# Altium footprint library ws2812esp32_v1.0_PcbLib.PcbLib: 16 footprints
Each footprint in its own frame and in the unit in brackets; x right, y up, seen from the top. Pads: shape width x height; smd on the part's side, far side on the other; paste and mask are expansions set on the pad; w line width, h text height; cw(c..) or ccw(c..) is an arc to the next point about the centre after c.
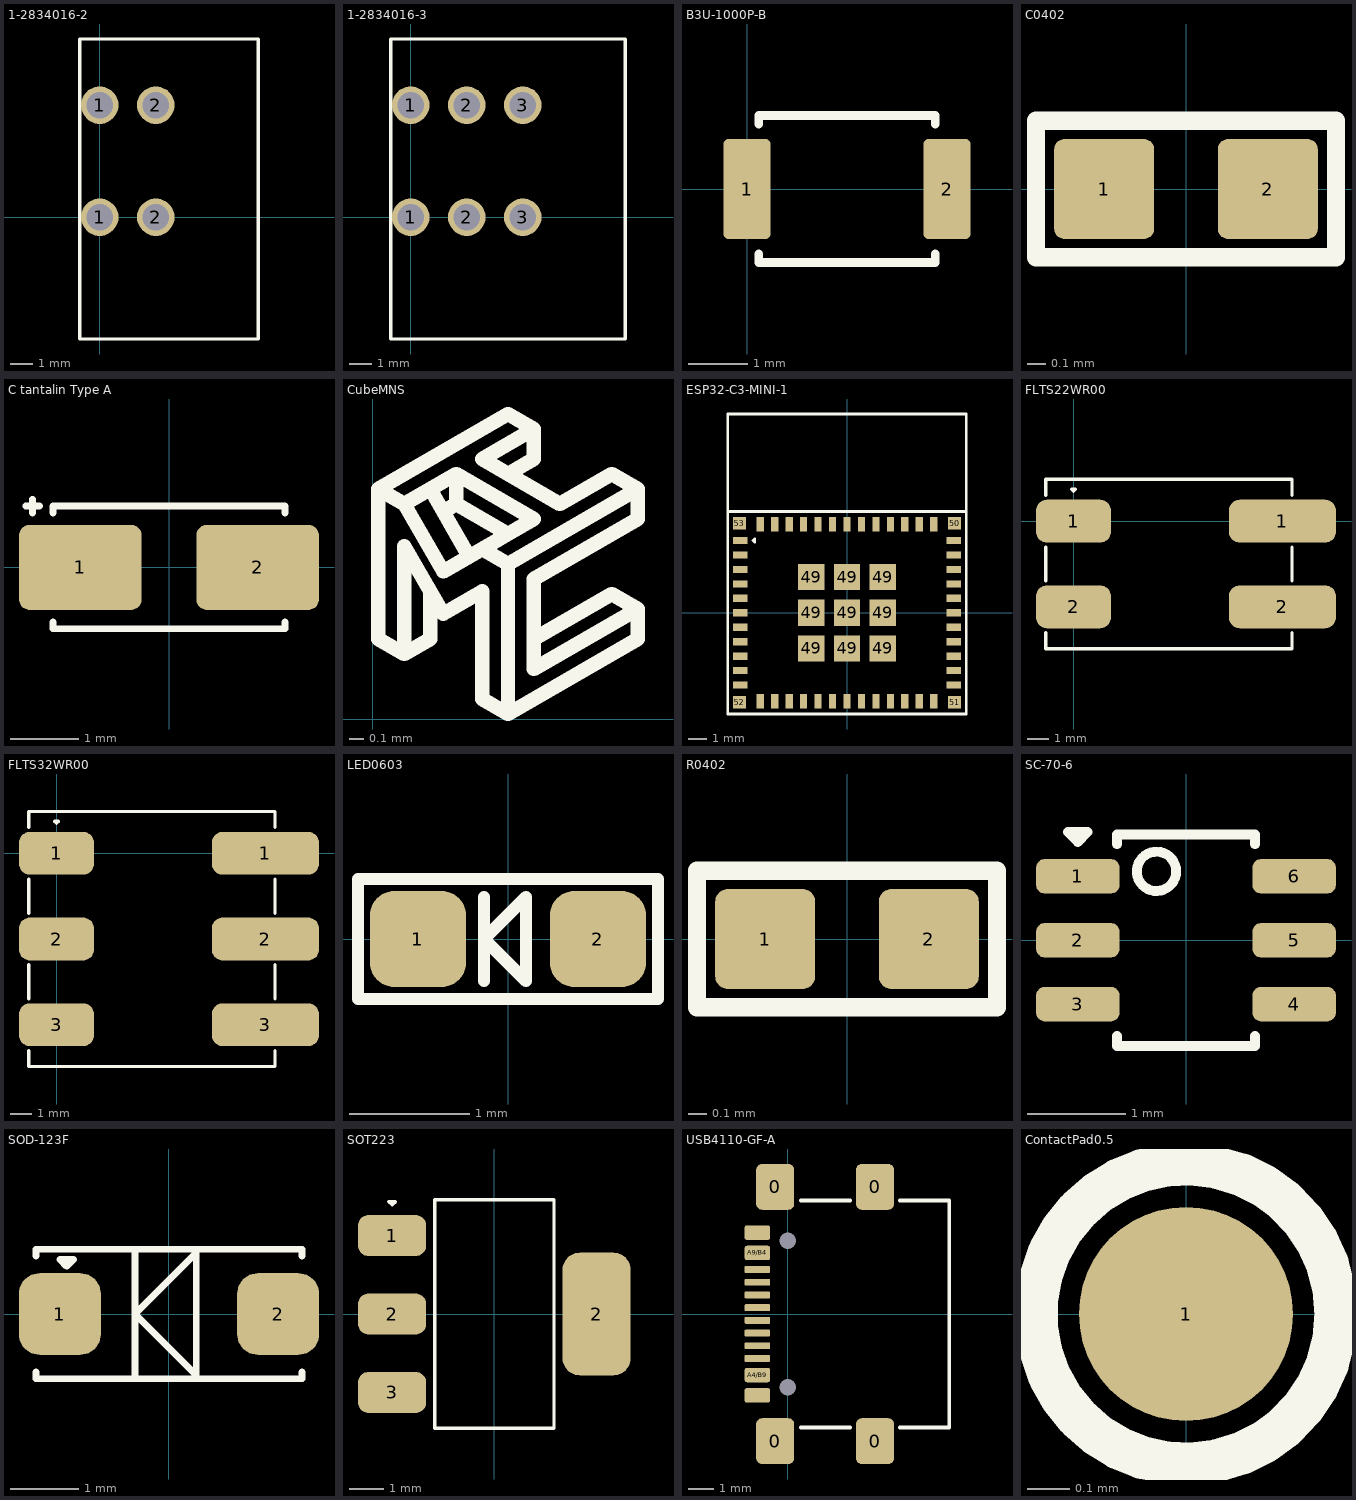
[diagram p0: the footprints below, top view; thin cyan lines are the x and y axes]

## 1-2834016-2 [mm]
pads (4):
  round 1.7 hole 1.2: 1(0,0) 1(0,5.08) 2(2.54,0) 2(2.54,5.08)
Top Overlay:
  lines w0.15: -0.9,-5.52 7.18,-5.52 7.18,8.08 -0.9,8.08 -0.9,-5.52
3D body "1-2834016-2.stp": height 12.81, standoff -3.49, extent -0.9,-5.402 7.18,8.202

## 1-2834016-3 [mm]
pads (6):
  round 1.7 hole 1.2: 1(0,0) 1(0,5.08) 2(2.54,0) 2(2.54,5.08) 3(5.08,0) 3(5.08,5.08)
Top Overlay:
  lines w0.15: -0.9,-5.52 9.72,-5.52 9.72,8.08 -0.9,8.08 -0.9,-5.52
3D body "1-2834016-3.stp": height 12.81, standoff -3.49, extent -0.9,-5.402 9.72,8.202

## B3U-1000P-B [mm]
pads (2):
  rrect20% 0.8x1.7 smd: 1(0,0) 2(3.4,0)
Top Overlay:
  lines w0.15: 0.2,-1.1 0.2,-1.25 3.2,-1.25 3.2,-1.1 ; 0.2,1.1 0.2,1.25 3.2,1.25 3.2,1.1
3D body "B3U1000P Omron.stp": height 1.61, standoff 0.01, extent -0.3,-1.25 3.7,1.25

## C0402 [mm] "Chip Capacitor, 2-Leads, Body 1,00x0,50mm, IPC High Density"
height 0.55
pads (2):
  rrect20% 0.55x0.55 smd: 1(-0.45,0) 2(0.45,0)
Top Overlay:
  lines w0.1: -0.825,-0.375 -0.825,0.375 0.825,0.375 0.825,-0.375 -0.825,-0.375
3D body "C0402.step": height 0.55, standoff 0, extent -0.525,-0.275 0.525,0.275

## C tantalin Type A [mm] "Molded Capacitor, 2-Leads, Body 3,20x1,60mm, IPC Medium Density"
height 1.8
pads (2):
  rrect25% 1.8x1.25 smd: 1(-1.3,0) 2(1.3,0)
Top Overlay:
  lines w0.1: -2.1,0.9 -1.9,0.9 ; -2,0.8 -2,1 ; -1.7,-0.8 -1.7,-0.9 1.7,-0.9 1.7,-0.8 ; -1.7,0.8 -1.7,0.9 1.7,0.9 1.7,0.8
3D body "C tantalin Type A.step": height 1.8, standoff 0, extent -1.92,-0.9 1.92,0.9

## CubeMNS [mm]
Top Overlay:
  lines w0.1: 0.395,0.882 0.395,0.553 0.216,0.45 ; 0.485,1.435 0.575,1.487 ; 0.665,1.124 0.395,1.59 ; 0.934,1.694 1.114,1.798 1.114,2.005 ; 1.114,0.553 1.652,0.865 1.832,0.761 ; 0.036,1.59 0.934,2.109 1.114,2.005 ; 0.036,1.59 0.216,1.487 ; 0.036,1.59 0.036,0.553 0.216,0.45 ; 0.216,0.45 0.216,1.193 0.485,0.727 0.754,0.882 0.754,0.139 0.934,0.035 ; 0.216,1.487 0.485,1.02 0.754,1.176 ; 0.216,1.487 0.395,1.59 ; 0.395,1.59 0.575,1.694 ; 0.575,1.487 0.934,1.279 ; 0.575,1.487 0.575,1.694 ; 0.575,1.694 1.114,1.383 0.934,1.279 ; 0.754,1.176 0.934,1.279 ; 0.754,1.176 0.934,1.072 ; 0.934,0.035 0.934,1.072 ; 0.934,0.035 1.832,0.553 1.832,0.761 ; 0.934,1.072 1.832,1.59 ; 1.114,2.005 0.754,1.798 1.293,1.487 1.652,1.694 1.832,1.59 ; 1.832,0.761 1.114,0.346 1.114,0.968 1.832,1.383 1.832,1.59

## ESP32-C3-MINI-1 [mm] "https://www.espressif.com/sites/default/files/documentation/esp32-c3-mini-1_datasheet_en.pdf"
height 2.55
pads (61):
  rect 0.8x0.4 smd: 1(-5.9,4) 2(-5.9,3.2) 3(-5.9,2.4) 4(-5.9,1.6) 5(-5.9,0.8) 6(-5.9,0) 7(-5.9,-0.8) 8(-5.9,-1.6) 9(-5.9,-2.4) 10(-5.9,-3.2) 11(-5.9,-4) 25(5.9,-4) 26(5.9,-3.2) 27(5.9,-2.4) 28(5.9,-1.6) 29(5.9,-0.8) 30(5.9,0) 31(5.9,0.8) 32(5.9,1.6) 33(5.9,2.4) 34(5.9,3.2) 35(5.9,4)
  rect 0.4x0.8 smd: 12(-4.8,-4.9) 13(-4,-4.9) 14(-3.2,-4.9) 15(-2.4,-4.9) 16(-1.6,-4.9) 17(-0.8,-4.9) 18(0,-4.9) 19(0.8,-4.9) 20(1.6,-4.9) 21(2.4,-4.9) 22(3.2,-4.9) 23(4,-4.9) 24(4.8,-4.9) 36(4.8,4.9) 37(4,4.9) 38(3.2,4.9) 39(2.4,4.9) 40(1.6,4.9) 41(0.8,4.9) 42(0,4.9) 43(-0.8,4.9) 44(-1.6,4.9) 45(-2.4,4.9) 46(-3.2,4.9) 47(-4,4.9) 48(-4.8,4.9)
  rect 1.45x1.45 smd: 49(-1.975,-1.975) 49(-1.975,0) 49(-1.975,1.975) 49(0,-1.975) 49(0,0) 49(0,1.975) 49(1.975,-1.975) 49(1.975,0) 49(1.975,1.975)
  rect 0.7x0.7 smd: 50(5.95,4.95) 51(5.95,-4.95) 52(-5.95,-4.95) 53(-5.95,4.95)
Top Overlay:
  lines w0.15: -6.6,5.6 6.6,5.6 ; -6.6,-5.6 -6.6,11 6.6,11 6.6,-5.6 -6.6,-5.6 ; -5.2,4 -5.1,3.9 -5.1,4.1 -5.2,4
3D body "ESP32-C3-MINI-1 3D Model.STEP": height 2.4, standoff 0, extent -6.6,-5.6 6.6,11

## FLTS22WR00 [mm]
height 4.6
pads (4):
  rrect50% 3.5x2 smd: 1(0,0) 2(0,-4)
  rrect50% 5x2 smd: 1(9.75,0) 2(9.75,-4)
Top Overlay:
  lines w0.15: -1.3,-5.2 -1.3,-5.95 10.2,-5.95 10.2,-5.2 ; -1.3,-2.8 -1.3,-1.2 ; -1.3,1.2 -1.3,1.95 10.2,1.95 10.2,1.2 ; 10.2,-2.8 10.2,-1.2 ; -0.1,1.5 0,1.4 0.1,1.5 -0.1,1.5
3D body "FLTS22WR00.STEP": height 4.61, standoff 0.01, extent -1.3,-5.95 11.8,1.95

## FLTS32WR00 [mm]
height 4.6
pads (6):
  rrect50% 3.5x2 smd: 1(0,0) 2(0,-4) 3(0,-8)
  rrect50% 5x2 smd: 1(9.75,0) 2(9.75,-4) 3(9.75,-8)
Top Overlay:
  lines w0.15: -1.3,-9.2 -1.3,-9.95 10.2,-9.95 10.2,-9.2 ; -1.3,-6.8 -1.3,-5.2 ; -1.3,-2.8 -1.3,-1.2 ; -1.3,1.2 -1.3,1.95 10.2,1.95 10.2,1.2 ; 10.2,-6.8 10.2,-5.2 ; 10.2,-2.8 10.2,-1.2 ; -0.1,1.5 0.1,1.5 0,1.4 -0.1,1.5
3D body "FLTS32WR00.STEP": height 4.61, standoff 0.01, extent -1.3,-9.95 11.8,1.95

## LED0603 [mm] "APT1608"
height 0.75
pads (2):
  rrect50% 0.8x0.8 smd mask+0.051: 1(-0.75,0) 2(0.75,0)
Top Overlay:
  lines w0.1: -0.2,-0.35 -0.2,0.35 ; -1.25,-0.5 -1.25,0.5 1.25,0.5 1.25,-0.5 -1.25,-0.5 ; -0.2,0 0.15,0.35 0.15,-0.35 -0.2,0
3D body "KT0603 синий.stp": height 0.82, standoff 0.02, extent -0.8,-0.4 0.8,0.4

## R0402 [mm]
height 0.5
pads (2):
  rrect25% 0.55x0.55 smd: 1(-0.45,0) 2(0.45,0)
Top Overlay:
  lines w0.1: -0.825,-0.375 -0.825,0.375 0.825,0.375 0.825,-0.375 -0.825,-0.375
3D body "R0402.step": height 0.5, standoff 0, extent -0.525,-0.275 0.525,0.275

## SC-70-6 [mm] "SOT23, 6-Leads, Body 2,00x2,10mm, Pitch 0,65mm, IPC Medium Density"
height 1.1
pads (6):
  rrect50% 0.85x0.35 smd: 1(-1.1,0.65) 2(-1.1,0) 3(-1.1,-0.65) 4(1.1,-0.65) 5(1.1,0) 6(1.1,0.65)
Top Overlay:
  circle w0.1: c-0.3,0.7 r0.2
  lines w0.1: -0.7,-0.975 -0.7,-1.075 0.7,-1.075 0.7,-0.975 ; -0.7,0.975 -0.7,1.075 0.7,1.075 0.7,0.975 ; -1.2,1.1 -1,1.1 -1.1,1 -1.2,1.1
3D body "SOT23127P600-8N.step": height 1.1, standoff 0, extent -1.2,-1.075 1.2,1.075

## SOD-123F [mm] "SOD-123FL"
height 1.1
pads (2):
  rrect50% 1.2x1.2 smd: 1(-1.6,0) 2(1.6,0)
Top Overlay:
  lines w0.1: -1.95,-0.85 -1.95,-0.95 1.95,-0.95 1.95,-0.85 ; -1.95,0.85 -1.95,0.95 1.95,0.95 1.95,0.85 ; -0.5,-0.9 -0.5,0.9 ; -0.5,0 -0.5,0 ; -0.5,0 0.4,0.9 0.4,-0.9 -0.5,0 ; -1.6,0.8 -1.4,0.8 -1.5,0.7 -1.6,0.8
3D body "SOD-123F.step": height 1.1, standoff 0, extent -1.875,-0.95 1.875,0.95

## SOT223 [mm] "SOT223, 4-Leads, Body 6,50x7,00mm (avg), Pitch 2,30mm, IPC Medium Density"
height 1.8
pads (4):
  rrect50% 2x1.2 smd: 1(-3,2.3) 2(-3,0) 3(-3,-2.3)
  rrect50% 2x3.6 smd: 2(3,0)
Top Overlay:
  lines w0.1: -3.1,3.3 -2.9,3.3 -3,3.2 -3.1,3.3 ; -1.75,-3.35 1.75,-3.35 1.75,3.35 -1.75,3.35 -1.75,-3.35
3D body "SOT223.step": height 1.8, standoff 0, extent -3.5,-3.35 3.5,3.35

## USB4110-GF-A [mm]
height 3.26
pads (18):
  rrect30% 1.5x1.8 smd: 0(-0.5,-5) 0(-0.5,5) 0(3.43,-5) 0(3.43,5)
  rrect30% 1x0.57 smd: A1/B12(-1.2,-3.2) A4/B9(-1.2,-2.4) A9/B4(-1.2,2.4) A12/B1(-1.2,3.2)
  rrect30% 1x0.27 smd: A5(-1.2,-1.25) A6(-1.2,-0.25) A7(-1.2,0.25) A8(-1.2,1.25) B5(-1.2,1.75) B6(-1.2,0.75) B7(-1.2,-0.75) B8(-1.2,-1.75)
  rrect50% 0x0 hole 0.65: MH(0,-2.89) MH(0,2.89)
Top Overlay:
  lines w0.15: 0.505,-4.47 2.45,-4.47 ; 0.505,4.47 2.45,4.47 ; 4.405,-4.47 6.35,-4.47 6.35,4.47 4.405,4.47
3D body "USB4110-GF-A.stp": height 3.27, standoff -0.61, extent -1.42,-5.65 6.28,5.65

## СontactPad0.5 [mm] "Сontact Pad D 0.5 mm"
pads (1):
  round 0.5 smd: 1(0,0)
Top Overlay:
  circle w0.1: c0,0 r0.35